# Altium schematic symbol library FTDI_chip.SchLib: 2 symbols
Pins are listed as number, name and electrical type; pins without a type are passive.

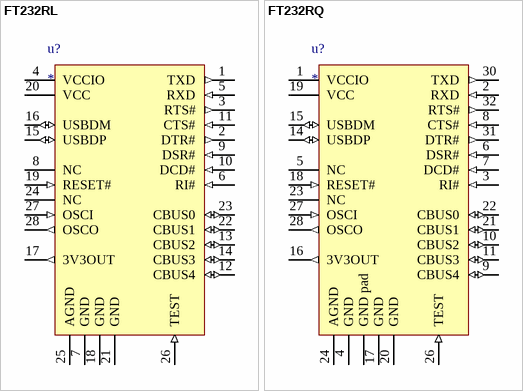
[diagram p0: symbols FT232RL to FT232RQ]

## FT232RL
designator u?
TSSOP-28
footprint TSSOP-28
pins: 1 TXD (out), 2 DTR# (out), 3 RTS# (out), 4 VCCIO (power), 5 RXD (in), 6 RI# (in), 7 GND (power), 8 NC, 9 DSR# (in), 10 DCD# (in), 11 CTS# (in), 12 CBUS4 (io), 13 CBUS2 (io), 14 CBUS3 (io), 15 USBDP (io), 16 USBDM (io), 17 3V3OUT (out), 18 GND (power), 19 RESET# (in), 20 VCC (power), 21 GND (power), 22 CBUS1 (io), 23 CBUS0 (io), 24 NC (power), 25 AGND (power), 26 TEST (in), 27 OSCI (in), 28 OSCO (out)

## FT232RQ
designator u?
QFN-32
footprint QFN-32
pins: 0 GND pad, 1 VCCIO (power), 2 RXD (in), 3 RI# (in), 4 GND (power), 5 NC, 6 DSR# (in), 7 DCD# (in), 8 CTS# (in), 9 CBUS4 (io), 10 CBUS2 (io), 11 CBUS3 (io), 14 USBDP (io), 15 USBDM (io), 16 3V3OUT (out), 17 GND (power), 18 RESET# (in), 19 VCC (power), 20 GND (power), 21 CBUS1 (io), 22 CBUS0 (io), 23 NC (power), 24 AGND (power), 26 TEST (in), 27 OSCI (in), 28 OSCO (out), 30 TXD (out), 31 DTR# (out), 32 RTS# (out)